# EAGLE library part 50 (library Erni-MicroStack)
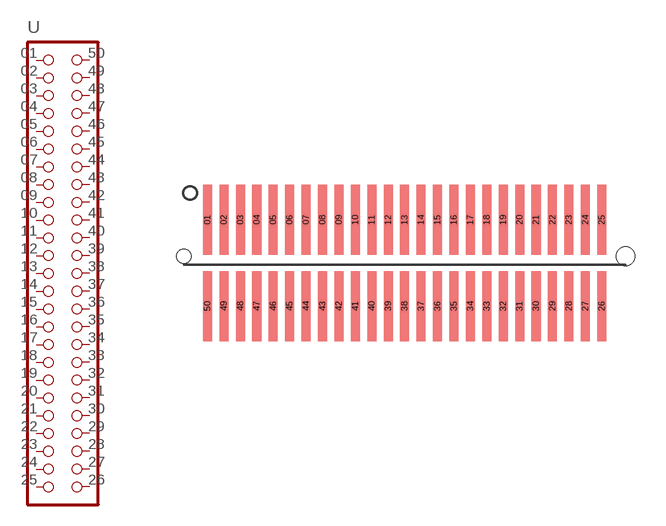
[diagram p5: symbol with the pads of 25X2; footprint 25X2]

Designator prefix -

## 50  [25X2]
01  1
02  2
03  3  pas
04  4  pas
05  5  pas
06  6  pas
07  7  pas
08  8  pas
09  9  pas
10  10  pas
11  11  pas
12  12  pas
13  13  pas
14  14  pas
15  15  pas
16  16  pas
17  17  pas
18  18  pas
19  19  pas
20  20  pas
21  21  pas
22  22  pas
23  23  pas
24  24  pas
25  25  pas
26  26  pas
27  27  pas
28  28  pas
29  29  pas
30  30  pas
31  31  pas
32  32  pas
33  33  pas
34  34  pas
35  35  pas
36  36  pas
37  37  pas
38  38  pas
39  39  pas
40  40  pas
41  41  pas
42  42  pas
43  43  pas
44  44  pas
45  45  pas
46  46  pas
47  47  pas
48  48  pas
49  49  pas
50  50  pas

## Footprint 25X2 (pad centres in mm)
smd 0.44 x 3.4: 01 -9.6,2.2; 02 -8.8,2.2; 03 -8,2.2; 04 -7.2,2.2; 05 -6.4,2.2; 06 -5.6,2.2; 07 -4.8,2.2; 08 -4,2.2; 09 -3.2,2.2; 10 -2.4,2.2; 11 -1.6,2.2; 12 -0.8,2.2; 13 0,2.2; 14 0.8,2.2; 15 1.6,2.2; 16 2.4,2.2; 17 3.2,2.2; 18 4,2.2; 19 4.8,2.2; 20 5.6,2.2; 21 6.4,2.2; 22 7.2,2.2; 23 8,2.2; 24 8.8,2.2; 25 9.6,2.2; 26 9.6,-2; 27 8.8,-2; 28 8,-2; 29 7.2,-2; 30 6.4,-2; 31 5.6,-2; 32 4.8,-2; 33 4,-2; 34 3.2,-2; 35 2.4,-2; 36 1.6,-2; 37 0.8,-2; 38 0,-2; 39 -0.8,-2; 40 -1.6,-2; 41 -2.4,-2; 42 -3.2,-2; 43 -4,-2; 44 -4.8,-2; 45 -5.6,-2; 46 -6.4,-2; 47 -7.2,-2; 48 -8,-2; 49 -8.8,-2; 50 -9.6,-2
hole 0.7 at -10.75,0.425
hole 0.9 at 10.75,0.425